# EAGLE library part UDN2987A-6-T (library Allegro_By_element14_Batch_1)
8-CHANNEL SOURCE DRIVER WITH OVER-CURRENT PROTECTION
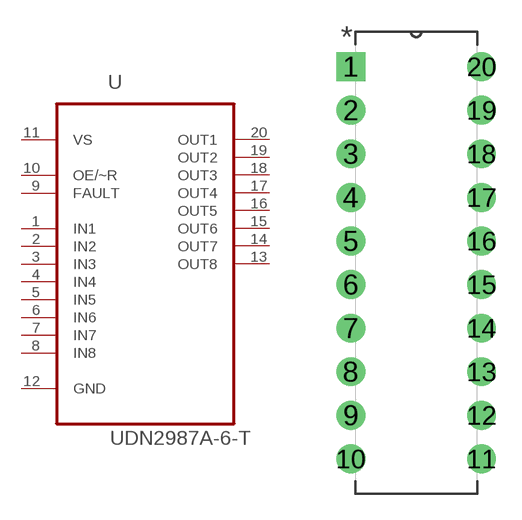
[diagram p40: symbol with the pads of DIP254P762X533-20; footprint DIP254P762X533-20]

Designator prefix U

## UDN2987A-6-T (MPN: UDN2987A-6-T; OC_FARNELL: 1521729; OC_NEWARK: 87K5089; PACKAGE: DIP-20; SUPPLIER: ALLEGRO MICROSYSTEMS)  [DIP254P762X533-20]
1  IN1  in
2  IN2  in
3  IN3  in
4  IN4  in
5  IN5  in
6  IN6  in
7  IN7  in
8  IN8  in
9  FAULT  in
10  OE/~R  in
11  VS  pwr
12  GND  pas
13  OUT8  out
14  OUT7  out
15  OUT6  out
16  OUT5  out
17  OUT4  out
18  OUT3  out
19  OUT2  out
20  OUT1  out

## Footprint DIP254P762X533-20 (pad centres in mm)
drill 1.118 square: 1 -7.62,22.86
drill 1.118: 2 -7.62,20.32; 3 -7.62,17.78; 4 -7.62,15.24; 5 -7.62,12.7; 6 -7.62,10.16; 7 -7.62,7.62; 8 -7.62,5.08; 9 -7.62,2.54; 10 -7.62,0; 11 0,0; 12 0,2.54; 13 0,5.08; 14 0,7.62; 15 0,10.16; 16 0,12.7; 17 0,15.24; 18 0,17.78; 19 0,20.32; 20 0,22.86